# EAGLE library part MPM3610 (library added_parts)
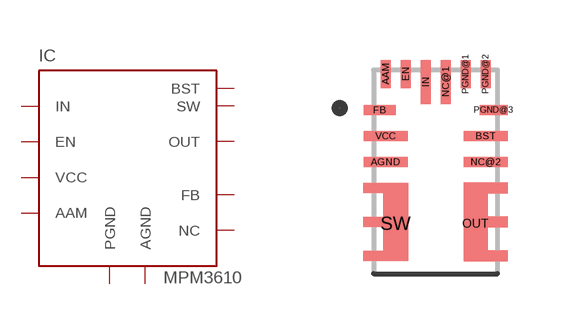
[diagram p28: symbol with the pads of MPM3610; footprint MPM3610]

Designator prefix IC

## MPM3610GQV  [MPM3610]
AAM  AAM  pas
AGND  AGND  pwr
BST  BST  pas
EN  EN  in
FB  FB  pas
IN  IN  pwr
NC@1  NC  nc
NC@2  NC  nc
OUT  OUT  sup
PGND@1  PGND  pwr
PGND@2  PGND  pwr
PGND@3  PGND  pwr
SW  SW  pas
VCC  VCC  sup

## Footprint MPM3610 (pad centres in mm)
smd 0.25 x 0.7: AAM -1.25,2.45; EN -0.75,2.45; PGND@1 0.75,2.45; PGND@2 1.25,2.45
smd 1.1 x 0.25: AGND -1.25,0.25; BST 1.25,0.9; NC@2 1.25,0.25; VCC -1.25,0.9
smd 0.8 x 0.25: FB -1.4,1.55
smd 0.25 x 1.1: IN -0.25,2.25; NC@1 0.25,2.25
smd 0.5 x 0.5: OUT 1,-1.3; SW -1,-1.3
smd 0.7 x 0.25: PGND@3 1.45,1.55